# Altium footprint library HT7133.PcbLib: 1 footprints
Each footprint in its own frame and in the unit in brackets; x right, y up, seen from the top. Pads: shape width x height; smd on the part's side, far side on the other; paste and mask are expansions set on the pad; w line width, h text height; cw(c..) or ccw(c..) is an arc to the next point about the centre after c.
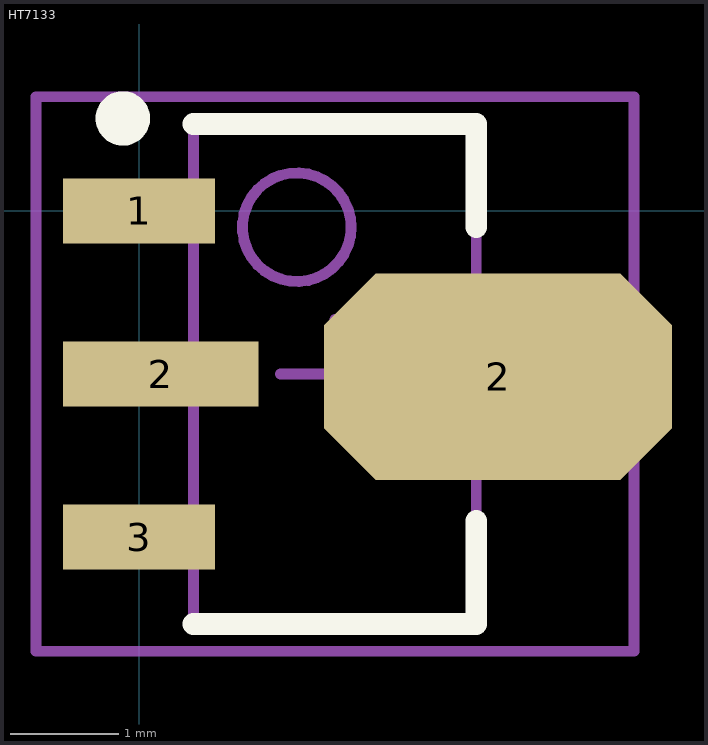
[diagram p0: the footprint, top view; thin cyan lines are the x and y axes]

## HT7133 [mm]
pads (4):
  rect 1.4x0.6 smd: 1(0,0) 3(0,-3)
  rect 1.8x0.6 smd: 2(0.2,-1.5)
  oct 3.2x1.9 smd: 2(3.302,-1.524)
Top Overlay:
  circle w0.25: c-0.15,0.85 r0.125
  lines w0.2: 0.5,-3.8 3.1,-3.8 3.1,-2.85 ; 0.5,0.8 3.1,0.8 3.1,-0.15
Mechanical 13:
  circle w0.1: c1.45,-0.15 r0.5
  lines w0.1: 0.5,-3.8 3.1,-3.8 3.1,0.8 0.5,0.8 0.5,-3.8
Mechanical 15:
  lines w0.1: 1.3,-1.5 2.3,-1.5 ; 1.8,-2 1.8,-1 ; -0.95,-4.05 4.55,-4.05 4.55,1.05 -0.95,1.05 -0.95,-4.05
3D body: height 1.6, standoff 0, extent 0.5,-3.8 3.1,0.8